# Altium footprint library SON45P400X300X80-17N.PCBLIB: 1 footprints
Each footprint in its own frame and in the unit in brackets; x right, y up, seen from the top. Pads: shape width x height; smd on the part's side, far side on the other; paste and mask are expansions set on the pad; w line width, h text height; cw(c..) or ccw(c..) is an arc to the next point about the centre after c.
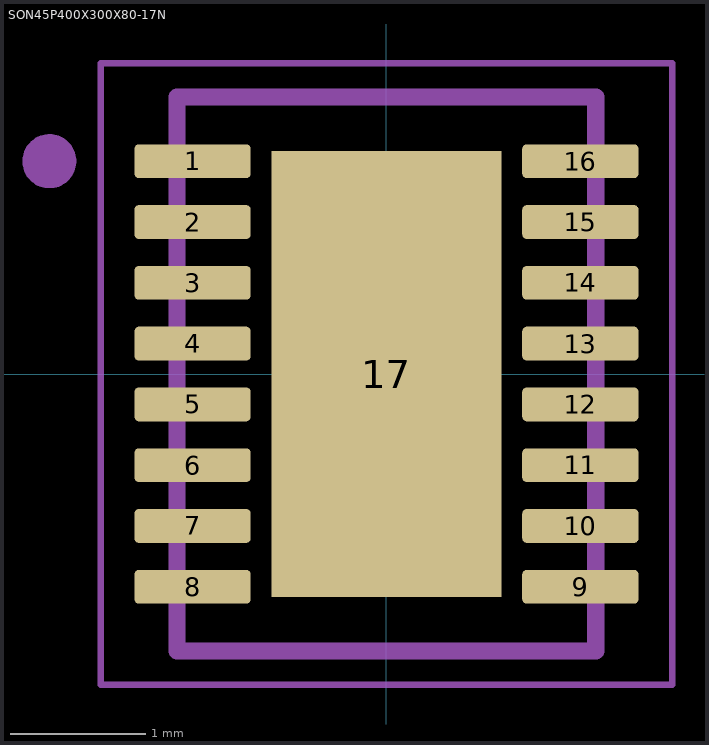
[diagram p0: the footprint, top view; thin cyan lines are the x and y axes]

## SON45P400X300X80-17N [mil]
pads (17):
  rrect25% 33.86x9.84 smd: 1(-56.5,62.01) 2(-56.5,44.29) 3(-56.5,26.57) 4(-56.5,8.86) 5(-56.5,-8.86) 6(-56.5,-26.57) 7(-56.5,-44.29) 8(-56.5,-62.01) 9(56.5,-62.01) 10(56.5,-44.29) 11(56.5,-26.57) 12(56.5,-8.86) 13(56.5,8.86) 14(56.5,26.57) 15(56.5,44.29) 16(56.5,62.01)
  rect 66.93x129.92 smd paste+0: 17(0,0)
Top Paste:
  region: -21.26,-40.94 -21.26,40.94 21.26,40.94 21.26,-40.94
Assembly Top:
  circle w7.87: c-98.23,62.01 r3.94
  lines w5: -61.02,-80.71 61.02,-80.71 61.02,80.71 -61.02,80.71 -61.02,-80.71
Mechanical 22:
  circle w7.87: c-98.23,62.01 r3.94
  lines w5: -61.02,-80.71 61.02,-80.71 ; -61.02,80.71 61.02,80.71
Mechanical 30:
  lines w1.97: -83.27,-90.55 83.27,-90.55 83.27,90.55 -83.27,90.55 -83.27,-90.55